# EAGLE library part LPD8806 (library pimoroni)
3-to-8 decoder
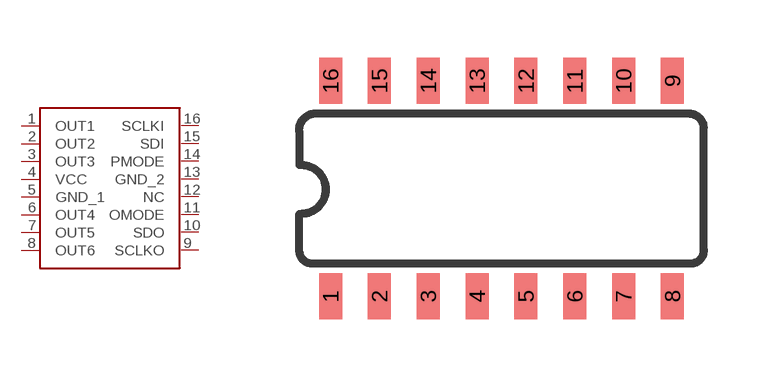
[diagram p2: symbol with the pads of SO016; footprint SO016]

Designator prefix -

## LPD8806  [SO016]
1  OUT1
2  OUT2
3  OUT3
4  VCC
5  GND_1
6  OUT4
7  OUT5
8  OUT6
9  SCLKO
10  SDO
11  OMODE
12  NC
13  GND_2
14  PMODE
15  SDI
16  SCLKI

## Footprint SO016 (pad centres in mm)
smd 0.6 x 1.2: 1 -4.445,-2.8; 2 -3.175,-2.8; 3 -1.905,-2.8; 4 -0.635,-2.8; 5 0.635,-2.8; 6 1.905,-2.8; 7 3.175,-2.8; 8 4.445,-2.8; 9 4.445,2.8; 10 3.175,2.8; 11 1.905,2.8; 12 0.635,2.8; 13 -0.635,2.8; 14 -1.905,2.8; 15 -3.175,2.8; 16 -4.445,2.8